# Altium footprint library SOIC127P700X200-4N.PcbLib: 1 footprints
Each footprint in its own frame and in the unit in brackets; x right, y up, seen from the top. Pads: shape width x height; smd on the part's side, far side on the other; paste and mask are expansions set on the pad; w line width, h text height; cw(c..) or ccw(c..) is an arc to the next point about the centre after c.
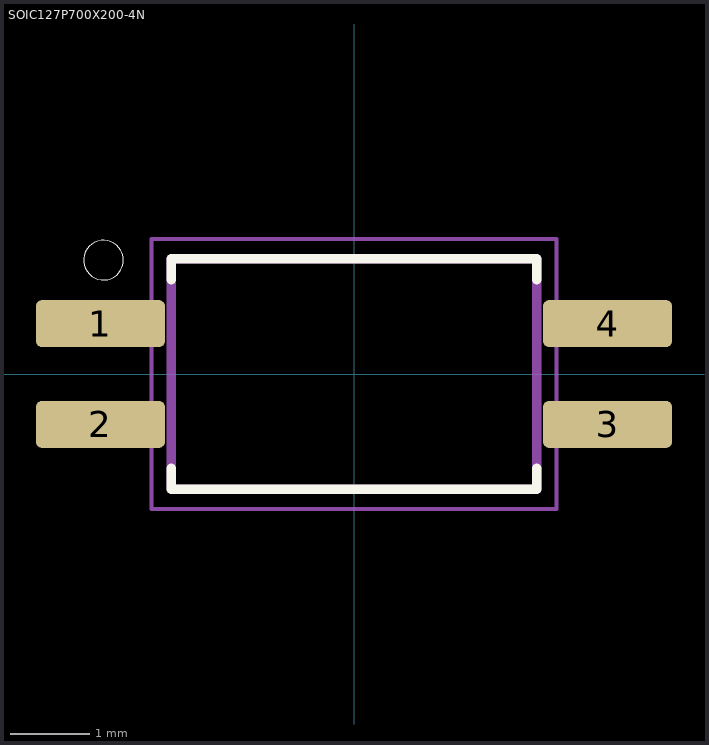
[diagram p0: the footprint, top view; thin cyan lines are the x and y axes]

## SOIC127P700X200-4N [mil]
pads (4):
  rrect25% 64x23.19 smd: 1(-125.68,25) 2(-125.68,-25) 3(125.68,-25) 4(125.68,25)
Top Overlay:
  circle w0: c-124.12,56.44 r9.84
  lines w4.72: -90.55,-46.6 -90.55,-57.09 90.55,-57.09 90.55,-46.6 ; -90.55,46.6 -90.55,57.09 90.55,57.09 90.55,46.6
Assembly Top:
  lines w4.72: -90.55,-57.09 90.55,-57.09 90.55,57.09 -90.55,57.09 -90.55,-57.09
Courtyard Top:
  lines w1.97: -100.39,-66.93 100.39,-66.93 100.39,66.93 -100.39,66.93 -100.39,-66.93
3D body "step_temp.STEP": height 78.74, standoff 0, extent -137.8,-53.15 137.8,53.15